# Altium footprint library L8050QLT1G.PcbLib: 1 footprints
Each footprint in its own frame and in the unit in brackets; x right, y up, seen from the top. Pads: shape width x height; smd on the part's side, far side on the other; paste and mask are expansions set on the pad; w line width, h text height; cw(c..) or ccw(c..) is an arc to the next point about the centre after c.
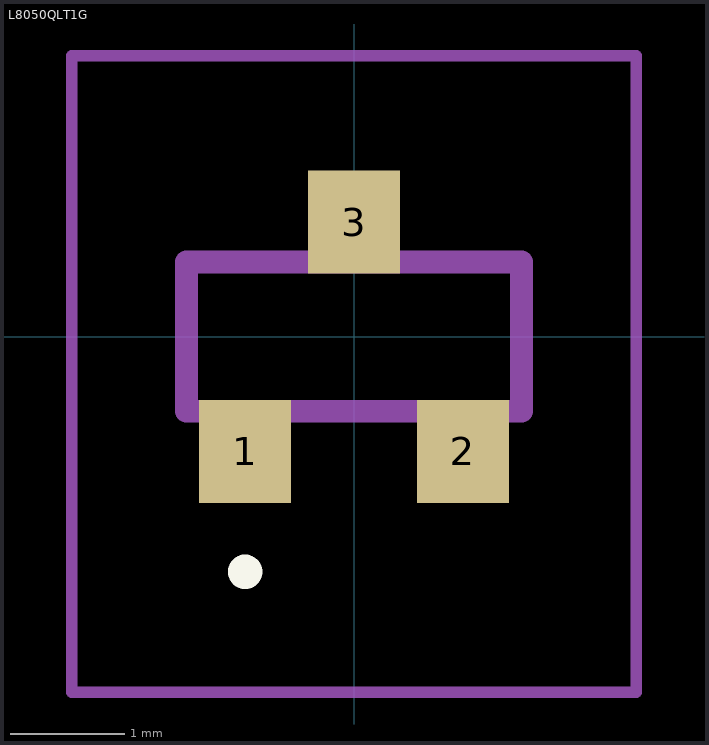
[diagram p0: the footprint, top view; thin cyan lines are the x and y axes]

## L8050QLT1G [mm]
pads (3):
  rect 0.8x0.9 smd: 1(-0.95,-1) 2(0.95,-1) 3(0,1)
Top Overlay:
  lines w0.2: -0.95,-2.1 cw(c-0.95,-2.05) -0.95,-2 ; -0.95,-2.1 ccw(c-0.95,-2.05) -0.95,-2 ; -0.95,-2.1 cw(c-0.95,-2.05) -0.95,-2
Mechanical 15:
  lines w0.2: -1.46,-0.65 -1.46,0.65 1.46,0.65 1.46,-0.65 -1.46,-0.65
Mechanical 20:
  lines w0.1: -2.46,-3.1 -2.46,2.45 2.46,2.45 2.46,-3.1 -2.46,-3.1
3D body "L8050QLT1G.stp": height 1.21, standoff 0, extent -1.46,-0.635 1.46,0.665